# Altium schematic symbol library Resistor.SchLib: 5 symbols
Pins are listed as number, name and electrical type; pins without a type are passive.

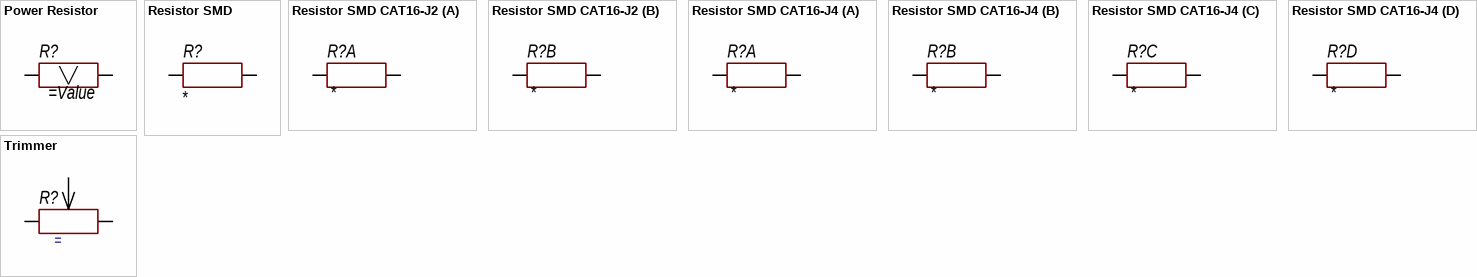
[diagram p0: symbols Power Resistor to Trimmer]

## Power Resistor
designator R?
footprint Power_Res_SQM
footprint Power_Res_SQT
pins: 1, 2

## Resistor SMD
designator R?
Model: *; Manufcacture: *; HelpURL: *; Case: *; Value: *
footprint RES:0402
footprint RES:0603
footprint RES:0603_2
footprint RES:0805
footprint RES:1206
footprint RES:1210
footprint RES:1218
footprint RES:2010
footprint RES:2512
pins: 1, 2

## Resistor SMD CAT16-J2
designator R?
Model: *; Manufcacture: *; HelpURL: *; Case: *; Value: *
footprint CAT16-J2
part A pins: 1, 2
part B pins: 3, 4

## Resistor SMD CAT16-J4
designator R?
Model: *; Manufcacture: *; HelpURL: *; Case: *; Value: *
footprint CAT16-J4
part A pins: 1, 2
part B pins: 3, 4
part C pins: 5, 6
part D pins: 7, 8

## Trimmer
designator R?
footprint Trimmer 3296
pins: 1, 2, 3